# Altium schematic symbol library Schlib.SchLib: 183 symbols
Pins are listed as number, name and electrical type; pins without a type are passive.

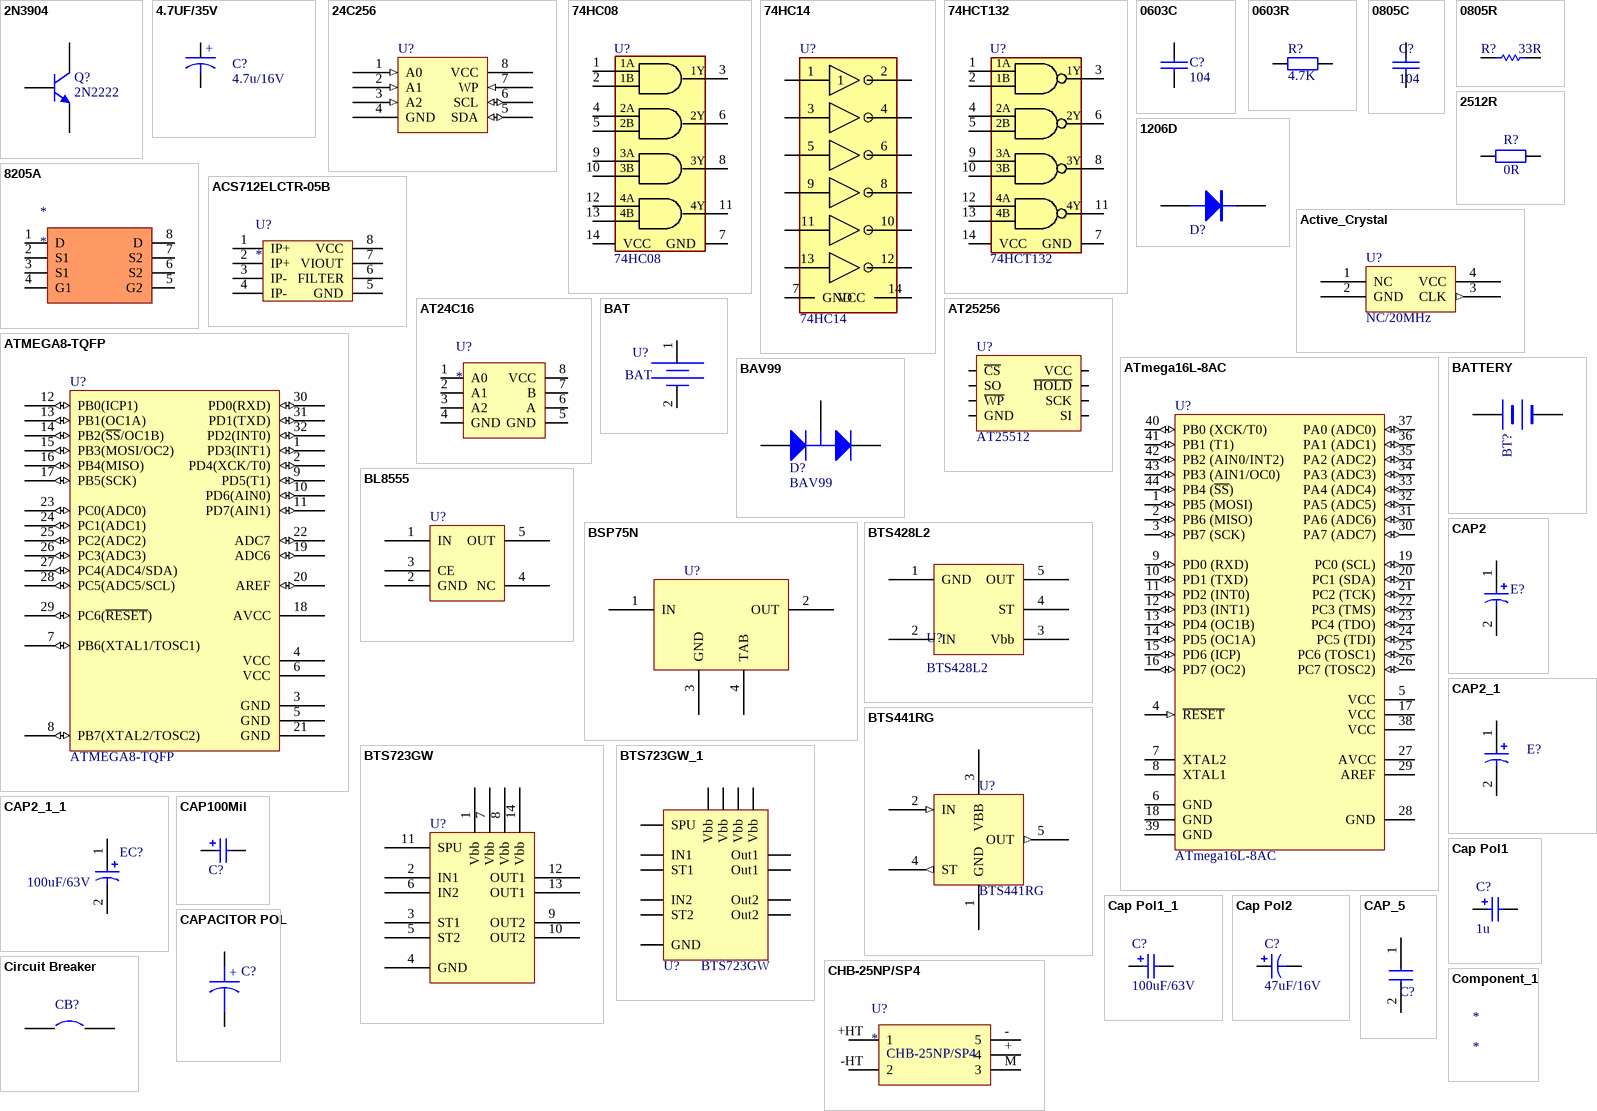
[diagram p0: symbols 2N3904 to Component_1]

## 2N3904
designator Q?, comment 2N2222
NPN General Purpose Amplifier; Published: 8-Jun-2000; LatestRevisionDate: 15-Jan-2003; LatestRevisionNote: PCB Footprint 'BCY-W3/D4.7' replaced; DatasheetDocument: 1997; PackageDocument: Sep-1998; PackageReference: TO-92A; Publisher: Altium Limited; Code_JEDEC: TO-92A; ComponentLink1Description: Manufacturer Link; ComponentLink1URL: http://www.fairchildsemi.com/; ComponentLink2Description: Datasheet; ComponentLink2URL: http://www.fairchildsemi.com/ds/2N%2F2N3904.pdf
footprint TO-92A (TO, Flat Index; 3 In-Line, Axial Leads; Body Dia. 4.5mm; Leads 0.51 x 0.48 mm (max))
simulation model 2N3904 (NPN)
signal-integrity model 2N3904
pins: 1 E, 2 B, 3 C

## 4.7UF/35V
designator C?, comment 4.7u/16V
CCTC-475K025
footprint 6032C
footprint 3528
pins: 1, 2
text: +

## 24C256
designator U?
footprint NSO8
pins: 1 A0 (in), 2 A1 (in), 3 A2 (in), 4 GND (power), 5 SDA (io), 6 SCL (io), 7 WP (in), 8 VCC (power)

## 74HC08
designator U?
Quad 2-input NAND gate
footprint SOP14
pins: 1 1A, 2 1B, 3 1Y, 4, 5, 6, 7 GND, 8, 9, 10 1B, 11, 12, 13, 14 VCC
text: 2A; 2Y; 2B; 3A; 3Y; 3B; 4A; 4Y; 4B

## 74HC14
designator U?
Quad 2-input NAND gate
footprint SOP14
pins: 1, 2, 3, 4, 5, 6, 7 GND, 8, 9, 10, 11, 12, 13, 14 VCC

## 74HCT132
designator U?
Quad 2-input NAND gate
footprint SOP14
pins: 1 1A, 2 1B, 3 1Y, 4, 5, 6, 7 GND, 8, 9, 10 1B, 11, 12, 13, 14 VCC
text: 2A; 2Y; 2B; 3A; 3Y; 3B; 4A; 4Y; 4B

## 0603C
designator C?, comment 104
footprint 0603C
pins: 1, 2

## 0603R
designator R?, comment 4.7K
footprint 0603R
pins: 1, 2

## 0805C
designator C?, comment 104
footprint 0805C
pins: 1, 2

## 0805R
designator R?, comment 33R
Published: 8-Jun-2000; LatestRevisionDate: 17-Jul-2002; LatestRevisionNote: Re-released for DXP Platform.; PackageReference: AXIAL-0.5; Publisher: Altium Limited; PackageDescription: Axial Device, Thru-Hole; 2 Leads; 0.5 in Pin Spacing
footprint 0805R
pins: 1, 2

## 1206D
designator D?
Diode
footprint 1206D (1206-Diode)
pins: 1 A, 2 K

## 2512R
designator R?, comment 0R
footprint 2512R (Footprint not found)
pins: 1, 2

## 8205A
designator *
pins: 1 D, 2 S1, 3 S1, 4 G1, 5 G2, 6 S2, 7 S2, 8 D

## ACS712ELCTR-05B
designator U?
pins: 1 IP+, 2 IP+, 3 IP-, 4 IP-, 5 GND, 6 FILTER, 7 VIOUT, 8 VCC

## Active_Crystal
designator U?, comment NC/20MHz
Active Crystal
footprint SO-CRYSTAL-4
pins: 1 NC, 2 GND (power), 3 CLK (out), 4 VCC (power)
2 alternate drawings of the same symbol

## AT24C16
designator U?
pins: 1 A0, 2 A1, 3 A2, 4 GND, 5 GND, 6 A, 7 B, 8 VCC

## AT25256
designator U?, comment AT25512
footprint SOIC8
pins: 1 ~{CS}, 2 SO, 3 ~{WP}, 4 GND, 5 SI, 6 SCK, 7 ~{HOLD}, 8 VCC

## ATMEGA8-TQFP
designator U?
Atmel 8-bit AVR MCU
footprint QFP7X7-G32/Y1.45N
pins: 1 PD3(INT1) (io), 2 PD4(XCK/T0) (io), 3 GND (power), 4 VCC (power), 5 GND (power), 6 VCC (power), 7 PB6(XTAL1/TOSC1) (io), 8 PB7(XTAL2/TOSC2) (io), 9 PD5(T1) (io), 10 PD6(AIN0) (io), 11 PD7(AIN1) (io), 12 PB0(ICP1) (io), 13 PB1(OC1A) (io), 14 PB2(~{SS}/OC1B) (io), 15 PB3(MOSI/OC2) (io), 16 PB4(MISO) (io), 17 PB5(SCK) (io), 18 AVCC (power), 19 ADC6 (io), 20 AREF (io), 21 GND (power), 22 ADC7 (io), 23 PC0(ADC0) (io), 24 PC1(ADC1) (io), 25 PC2(ADC2) (io), 26 PC3(ADC3) (io), 27 PC4(ADC4/SDA) (io), 28 PC5(ADC5/SCL) (io), 29 PC6(~{RESET}) (io), 30 PD0(RXD) (io), 31 PD1(TXD) (io), 32 PD2(INT0) (io)

## ATmega16L-8AC
designator U?
8-Bit AVR Microcontroller with 16K Bytes of In-System Programmable Flash Memory; Published: 17-Sep-2003; LatestRevisionDate: 4-Mar-2005; LatestRevisionNote: Stylized 3D Model Added.; DatasheetDocument: 2466E-AVR-10/02; PackageDocument: Dec-1999; PackageReference: 40P6; Publisher: Altium Limited; ComponentLink1Description: Manufacturer Link; ComponentLink1URL: http://www.atmel.com; ComponentLink2Description: Datasheet; ComponentLink2URL: http://www.atmel.com/dyn/resources/prod_documents/doc2466.pdf
footprint TQFP44
pins: 1 PB5 (MOSI) (io), 2 PB6 (MISO) (io), 3 PB7 (SCK) (io), 4 ~{RESET} (in), 5 VCC (power), 6 GND, 7 XTAL2, 8 XTAL1, 9 PD0 (RXD) (io), 10 PD1 (TXD) (io), 11 PD2 (INT0) (io), 12 PD3 (INT1) (io), 13 PD4 (OC1B) (io), 14 PD5 (OC1A) (io), 15 PD6 (ICP) (io), 16 PD7 (OC2) (io), 17 VCC (power), 18 GND, 19 PC0 (SCL) (io), 20 PC1 (SDA) (io), 21 PC2 (TCK) (io), 22 PC3 (TMS) (io), 23 PC4 (TDO) (io), 24 PC5 (TDI) (io), 25 PC6 (TOSC1) (io), 26 PC7 (TOSC2) (io), 27 AVCC (power), 28 GND (power), 29 AREF, 30 PA7 (ADC7) (io), 31 PA6 (ADC6) (io), 32 PA5 (ADC5) (io), 33 PA4 (ADC4) (io), 34 PA3 (ADC3) (io), 35 PA2 (ADC2) (io), 36 PA1 (ADC1) (io), 37 PA0 (ADC0) (io), 38 VCC (power), 39 GND, 40 PB0 (XCK/T0) (io), 41 PB1 (T1) (io), 42 PB2 (AIN0/INT2) (io), 43 PB3 (AIN1/OC0) (io), 44 PB4 (~{SS}) (io)

## BAT
designator U?
footprint BAT-1
pins: 1 NC, 2 NC

## BATTERY
designator BT?
Battery
footprint CR1220SOP
pins: 1 +, 2 -

## BAV99
designator D?
Silicon Switching Diode Array for High-Speed Switching; Published: 21-Mar-2003; DatasheetDocument: Oct-1999; PackageDocument: Sep-2001; PackageReference: SOT-23; Publisher: Altium Limited; ComponentLink1Description: Manufacturer Link; ComponentLink1URL: http://www.infineon.com/; ComponentLink2Description: Datasheet; ComponentLink2URL: http://www.infineon.com/upload/Document/cmc_upload/documents/080/631/bav99series_1.pdf
footprint SOT-23
footprint SOT23
pins: 1 A, 2 K, 3 C
2 alternate drawings of the same symbol

## BL8555
designator U?
footprint LDO
pins: 1 IN, 2 GND, 3 CE, 4 NC, 5 OUT

## BSP75N
designator U?
footprint SOT-223-4
pins: 1 IN, 2 OUT, 3 GND, 4 TAB

## BTS428L2
designator U?
footprint TO-252-5-11
pins: 1 GND, 2 IN, 3 Vbb, 4 ST, 5 OUT

## BTS441RG
designator U?
Smart Power High-Side-Switch
footprint PG-TO263-5-2
pins: 1 GND (power), 2 IN (in), 3 VBB (power), 4 ST (out), 5 OUT (out)
2 alternate drawings of the same symbol

## BTS723GW
designator U?
footprint SO14
pins: 1 Vbb, 2 IN1, 3 ST1, 4 GND, 5 ST2, 6 IN2, 7 Vbb, 8 Vbb, 9 OUT2, 10 OUT2, 11 SPU, 12 OUT1, 13 OUT1, 14 Vbb

## BTS723GW_1
designator U?, comment BTS723GW
Smart High-Side Power Switch
footprint SO-14
pins: 1 Vbb, 2 IN1, 3 ST1, 4 GND, 5 ST2, 6 IN2, 7 Vbb, 8 Vbb, 9 Out2, 10 Out2, 11 SPU, 12 Out1, 13 Out1, 14 Vbb
2 alternate drawings of the same symbol

## CAP2
designator E?
极性电容
footprint 0805
footprint 7343
pins: 1, 2

## CAP2_1
designator E?
极性电容
footprint 0805
footprint SMD16V1000U-1
pins: 1, 2

## CAP2_1_1
designator EC?, comment 100uF/63V
极性电容
footprint 0805
footprint SMD 6.3*8
pins: 1, 2

## CAP100Mil
designator C?, comment CAP  (value not drawn)
footprint CAP100Mil (MyCap)
pins: 1, 2

## Cap Pol1
designator C?, comment 1u
Polarized Capacitor (Radial); Published: 8-Jun-2000; LatestRevisionDate: 17-Jul-2002; LatestRevisionNote: Re-released for DXP Platform.; Publisher: Altium Limited
footprint RB7.6-15 (Polarized Capacitor (Radial); 2 Leads)
footprint CAPPR1.27-1.7x2.8 (Capacitor, Radial, Tantalum; Body 1.7 x 2.8 mm (Dia.xH max); Pin Spacing 1.27 mm (typ))
footprint CAPPR1.5-4x5 (Capacitor, Electrolytic, Radial; Body 4 x 5 mm (Dia.xH typ); Pin Spacing 1.5 mm (typ))
footprint CAPPR2-5x6.8 (Capacitor, Electrolytic, Radial; Body 5 x 6.8 mm (Dia.xH typ); Pin Spacing 2 mm (typ))
footprint CAPPR5-5x5 (Capacitor, Electrolytic, Radial; Body 5 x 5 mm (Dia.xH typ); Pin Spacing 5 mm (typ))
footprint CAPPR7.5-16x35 (Capacitor, Electrolytic, Radial; Body 16 x 35 mm (Dia.xH typ); Pin Spacing 7.5 mm (typ))
simulation model CAP (Capacitor)
signal-integrity model Cap Pol
pins: 1, 2
1 alternate drawing of the same symbol

## Cap Pol1_1
designator C?, comment 100uF/63V
Polarized Capacitor (Radial); Value: 100pF; Published: 8-Jun-2000; LatestRevisionDate: 17-Jul-2002; LatestRevisionNote: Re-released for DXP Platform.; PackageReference: RB7.6-15; Publisher: Altium Limited
footprint RB7.6-15
footprint HA-C1
footprint A
footprint B
footprint RB.2/.4-SMD
pins: 1, 2
2 alternate drawings of the same symbol

## Cap Pol2
designator C?, comment 47uF/16V
Polarized Capacitor (Axial); Value: 100pF; Published: 8-Jun-2000; LatestRevisionDate: 17-Jul-2002; LatestRevisionNote: Re-released for DXP Platform.; PackageReference: POLAR0.8; Publisher: Altium Limited
footprint POLAR0.8
footprint CAPPA14.05-10.5x6.3
footprint CAPPA23.6-18.5x8.5
footprint CAPPA31.6-26.5x12.5
footprint 6032
pins: 1, 2
2 alternate drawings of the same symbol

## CAP_5
designator C?
电容
footprint CAP
footprint 1210
pins: 1, 2

## CAPACITOR POL
designator C?
Capacitor
footprint C1206
footprint 7343
pins: 1, 2
2 alternate drawings of the same symbol
text: +

## CHB-25NP/SP4
designator U?
pins: + 4, +HT 1, - 5, -HT 2, M 3

## Circuit Breaker
designator CB?  (value not drawn)
footprint PIN_2
pins: 1, 2

## Component_1
designator *

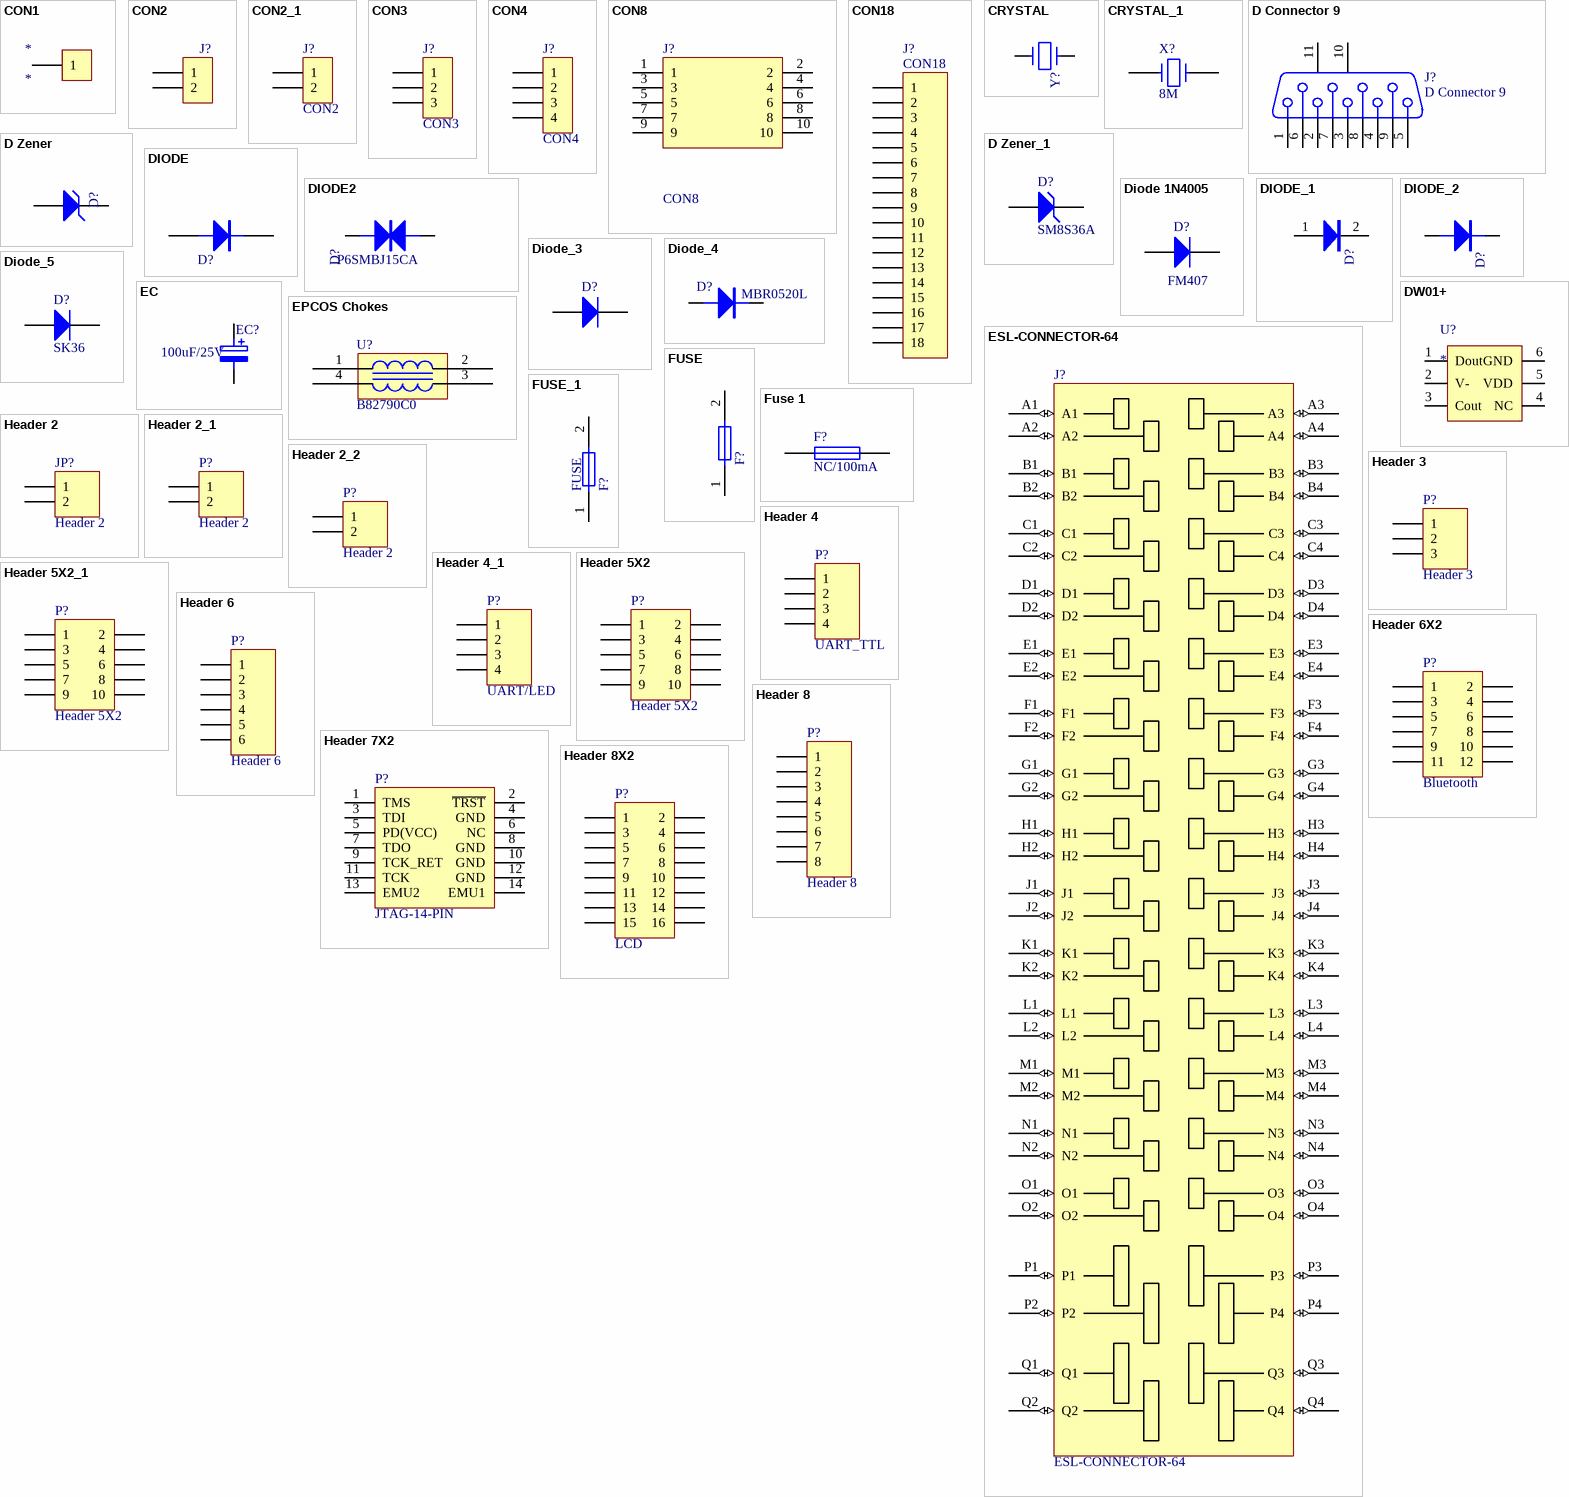
[diagram p1: symbols CON1 to Header 8X2]

## CON1
designator *
pins: 1

## CON2
designator J?
Connector
footprint SIP2
pins: 1, 2

## CON2_1
designator J?, comment CON2
Connector
footprint CON2-3.96
footprint DIP3.96-2-1
pins: 1, 2

## CON3
designator J?
Connector
footprint SIP3
footprint DIP2.54-3-1
pins: 1, 2, 3

## CON4
designator J?
Connector
footprint DIP2.54-4-1
pins: 1, 2, 3, 4

## CON8
designator J?
Connector
footprint DIP2.54-8-2
pins: 1, 2, 3, 4, 5, 6, 7, 8, 9, 10

## CON18
designator J?
footprint IDC18-XS
pins: 1, 2, 3, 4, 5, 6, 7, 8, 9, 10, 11, 12, 13, 14, 15, 16, 17, 18

## CRYSTAL
designator Y?
Crystal
footprint CRYSTAL1
footprint CRYSTAL2
footprint CRYSTAL-2
pins: 1, 2

## CRYSTAL_1
designator X?, comment 8M
Crystal
footprint XTAL-2-S
pins: 1, 2
2 alternate drawings of the same symbol

## D Connector 9
designator J?
Receptacle Assembly, 9 Position, Right Angle; PackageDocument: O; Positions: 9; Published: 15-Jun-2001; LatestRevisionDate: 17-Jul-2002; LatestRevisionNote: Re-released for DXP Platform.; DatasheetDocument: 1-Sep-1999; PackageReference: 788750; Publisher: Altium Limited; Orientation: Right Angle; Gender: Receptacle
footprint DSUB1.385-2H9 (Connector; D Subminiature; 9 Position; Right Angle; Pitch 1.385 mm)
signal-integrity model Connector
pins: 1, 2, 3, 4, 5, 6, 7, 8, 9, 10 MH1, 11 MH2

## D Zener
designator D?
Zener Diode; Published: *; LatestRevisionDate: *; LatestRevisionNote: *; PackageReference: *; Publisher: *
footprint DIODE-0.7
footprint DO-214AB
pins: 1 A, 2 K
2 alternate drawings of the same symbol

## D Zener_1
designator D?, comment SM8S36A
Zener Diode; Published: 8-Jun-2000; LatestRevisionDate: 17-Jul-2002; LatestRevisionNote: Re-released for DXP Platform.; PackageReference: DIODE-0.7; Publisher: Altium Limited
footprint DIODE-0.7
footprint D1812
footprint DO-218AB
pins: 1 A, 2 K
2 alternate drawings of the same symbol

## DIODE
designator D?
Diode
footprint 2010D
pins: 1 A, 2 K

## DIODE2
designator D?, comment P6SMBJ15CA
Diode
footprint 1206D
footprint 1210D
footprint DIODE0.4
footprint DO-214AA
pins: 1, 2

## Diode 1N4005
designator D?, comment FM407
1 Amp General Purpose Rectifier; Published: 8-Jun-2000; LatestRevisionDate: 17-Jul-2002; LatestRevisionNote: Re-released for DXP Platform.; DatasheetVersion: 1998; PackageVersion: Aug-1999; PackageReference: DO-41; Publisher: Altium Limited; PackageDescription: Diode, Axial; Body 5.2 x 2.7 mm (LxDia. max), Lead Dia. 0.86 mm (max); Code_JEDEC: DO-204-AL; ComponentLink1Description: Manufacturer Link; ComponentLink1URL: http://www.fairchildsemi.com/; ComponentLink2Description: Datasheet; ComponentLink2URL: http://www.fairchildsemi.com/ds/1N%2F1N4001.pdf
footprint Model Name (Footprint not found)
footprint DO-214AC SMA
pins: 1 A, 2 K

## DIODE_1
designator D?
footprint 2010D
pins: 1 A, 2 K

## DIODE_2
designator D?
Diode
footprint DO-214AA
footprint 1210D
footprint 1812D
pins: 1 A, 2 K

## Diode_3
designator D?
Default Diode; Published: 8-Jun-2000; LatestRevisionDate: 17-Jul-2002; LatestRevisionNote: Re-released for DXP Platform.; PackageVersion: Sep-1996; PackageReference: SMC; Publisher: Altium Limited; PackageDescription: DO-214-AB/SMC; 2 C-Bend Leads; Body 7.9 x 5.9 mm, inc. leads (LxW); Code_JEDEC: DO-214-AB
footprint SMC (DO-214-AB/SMC; 2 C-Bend Leads; Body 7.9 x 5.9 mm, inc. leads (LxW))
simulation model DIODE (Diode)
signal-integrity model Diode
pins: 1 A, 2 K

## Diode_4
designator D?, comment MBR0520L
Diode
footprint 1206-Diode
pins: 1 A, 2 K

## Diode_5
designator D?, comment SK36
Default Diode; Published: 8-Jun-2000; LatestRevisionDate: 17-Jul-2002; LatestRevisionNote: Re-released for DXP Platform.; PackageDocument: Sep-1996; PackageReference: SMC; Publisher: Altium Limited; Code_JEDEC: DO-214-AB
footprint SMC
footprint D1812
pins: 1 A, 2 K
2 alternate drawings of the same symbol

## DW01+
designator U?
footprint SOT-23-6 (Footprint not found)
pins: 1 Dout, 2 V-, 3 Cout, 4 NC, 5 VDD, 6 GND

## EC
designator EC?, comment 100uF/25V
Electrolytic Capacitor; 钽电容: *
footprint 7445 (D型钽电容)
pins: 1, 2
2 alternate drawings of the same symbol

## EPCOS Chokes
designator U?, comment B82790C0
Common-mode chokes, ring core
footprint EPCOS_Chokes
pins: 1, 2, 3, 4
2 alternate drawings of the same symbol

## ESL-CONNECTOR-64
designator J?
ESL 64pin connector
footprint ESL-CONNECTOR-64
pins: A1 (io), A2 (io), A3 (io), A4 (io), B1 (io), B2 (io), B3 (io), B4 (io), C1 (io), C2 (io), C3 (io), C4 (io), D1 (io), D2 (io), D3 (io), D4 (io), E1 (io), E2 (io), E3 (io), E4 (io), F1 (io), F2 (io), F3 (io), F4 (io), G1 (io), G2 (io), G3 (io), G4 (io), H1 (io), H2 (io), H3 (io), H4 (io), J1 (io), J2 (io), J3 (io), J4 (io), K1 (io), K2 (io), K3 (io), K4 (io), L1 (io), L2 (io), L3 (io), L4 (io), M1 (io), M2 (io), M3 (io), M4 (io), N1 (io), N2 (io), N3 (io), N4 (io), O1 (io), O2 (io), O3 (io), O4 (io), P1 (io), P2 (io), P3 (io), P4 (io), Q1 (io), Q2 (io), Q3 (io), Q4 (io)
2 alternate drawings of the same symbol

## FUSE
designator F?
footprint FUSE2
pins: 1, 2

## Fuse 1
designator F?, comment NC/100mA
Fuse; Published: 8-Jun-2000; LatestRevisionDate: 17-Jul-2002; LatestRevisionNote: Re-released for DXP Platform.; PackageReference: PIN-W2/E2.8; Publisher: Altium Limited
footprint 0805R
pins: 1, 2
2 alternate drawings of the same symbol

## FUSE_1
designator F?, comment FUSE
footprint 1210FUSE
pins: 1, 2

## Header 2
designator JP?
Header, 2-Pin; LatestRevisionDate: 17-Jul-2002; LatestRevisionNote: Re-released for DXP Platform.; Publisher: Altium Limited
footprint Header2  5.08mm
signal-integrity model Connector
pins: 1, 2

## Header 2_1
designator P?, comment Header 2
Header, 2-Pin; LatestRevisionDate: 17-Jul-2002; LatestRevisionNote: Re-released for DXP Platform.; Publisher: Altium Limited
footprint HDR1X2 (Connector; Header; 2 Position)
signal-integrity model Connector
pins: 1, 2

## Header 2_2
designator P?, comment Header 2
Header, 2-Pin; LatestRevisionDate: 17-Jul-2002; LatestRevisionNote: Re-released for DXP Platform.; Publisher: Altium Limited
footprint HDR1X2 (Connector; Header; 2 Position)
signal-integrity model Connector
pins: 1, 2

## Header 3
designator P?
Header, 3-Pin; LatestRevisionDate: 17-Jul-2002; LatestRevisionNote: Re-released for DXP Platform.; Publisher: Altium Limited
footprint resistor 67W
signal-integrity model Connector
pins: 1, 2, 3

## Header 4
designator P?, comment UART_TTL
Header, 4-Pin; LatestRevisionDate: 17-Jul-2002; LatestRevisionNote: Re-released for DXP Platform.; Publisher: Altium Limited
footprint HDR1X4 (Connector; Header; 4 Position)
signal-integrity model Connector
pins: 1, 2, 3, 4

## Header 4_1
designator P?, comment UART/LED
Header, 4-Pin; LatestRevisionDate: 17-Jul-2002; LatestRevisionNote: Re-released for DXP Platform.; Publisher: Altium Limited
footprint HDR1X4 (Connector; Header; 4 Position)
signal-integrity model Connector
pins: 1, 2, 3, 4

## Header 5X2
designator P?
Header, 5-Pin, Dual row; LatestRevisionDate: 17-Jul-2002; LatestRevisionNote: Re-released for DXP Platform.; Publisher: Altium Limited
footprint HDR2X5 (Connector; Header; 5x2 Position)
signal-integrity model Connector
pins: 1, 2, 3, 4, 5, 6, 7, 8, 9, 10

## Header 5X2_1
designator P?, comment Header 5X2
Header, 5-Pin, Dual row; LatestRevisionDate: 17-Jul-2002; LatestRevisionNote: Re-released for DXP Platform.; Publisher: Altium Limited
footprint HDR2X5 (Connector; Header; 5x2 Position)
signal-integrity model Connector
pins: 1, 2, 3, 4, 5, 6, 7, 8, 9, 10

## Header 6
designator P?
Header, 6-Pin; LatestRevisionDate: 17-Jul-2002; LatestRevisionNote: Re-released for DXP Platform.; Publisher: Altium Limited
footprint HDR1X6 (Connector; Header; 6 Position)
signal-integrity model Connector
pins: 1, 2, 3, 4, 5, 6

## Header 6X2
designator P?, comment Bluetooth
Header, 6-Pin, Dual row; LatestRevisionDate: 17-Jul-2002; LatestRevisionNote: Re-released for DXP Platform.; Publisher: Altium Limited
footprint HDR2X6 (Connector; Header; 6x2 Position)
signal-integrity model Connector
pins: 1, 2, 3, 4, 5, 6, 7, 8, 9, 10, 11, 12

## Header 7X2
designator P?, comment JTAG-14-PIN
Header, 7-Pin, Dual row; LatestRevisionDate: 17-Jul-2002; LatestRevisionNote: Re-released for DXP Platform.; Publisher: Altium Limited
footprint HDR2X7 (Connector; Header; 7x2 Position)
pins: 1 TMS, 2 ~{TRST}, 3 TDI, 4 GND, 5 PD(VCC), 6 NC, 7 TDO, 8 GND, 9 TCK_RET, 10 GND, 11 TCK, 12 GND, 13 EMU2, 14 EMU1

## Header 8
designator P?
Header, 8-Pin; LatestRevisionDate: 17-Jul-2002; LatestRevisionNote: Re-released for DXP Platform.; Publisher: Altium Limited
footprint HDR1X8 (Connector; Header; 8 Position)
signal-integrity model Connector
pins: 1, 2, 3, 4, 5, 6, 7, 8

## Header 8X2
designator P?, comment LCD
Header, 8-Pin, Dual row; LatestRevisionDate: 17-Jul-2002; LatestRevisionNote: Re-released for DXP Platform.; Publisher: Altium Limited
footprint HDR2X8 (Connector; Header; 8x2 Position)
signal-integrity model Connector
pins: 1, 2, 3, 4, 5, 6, 7, 8, 9, 10, 11, 12, 13, 14, 15, 16

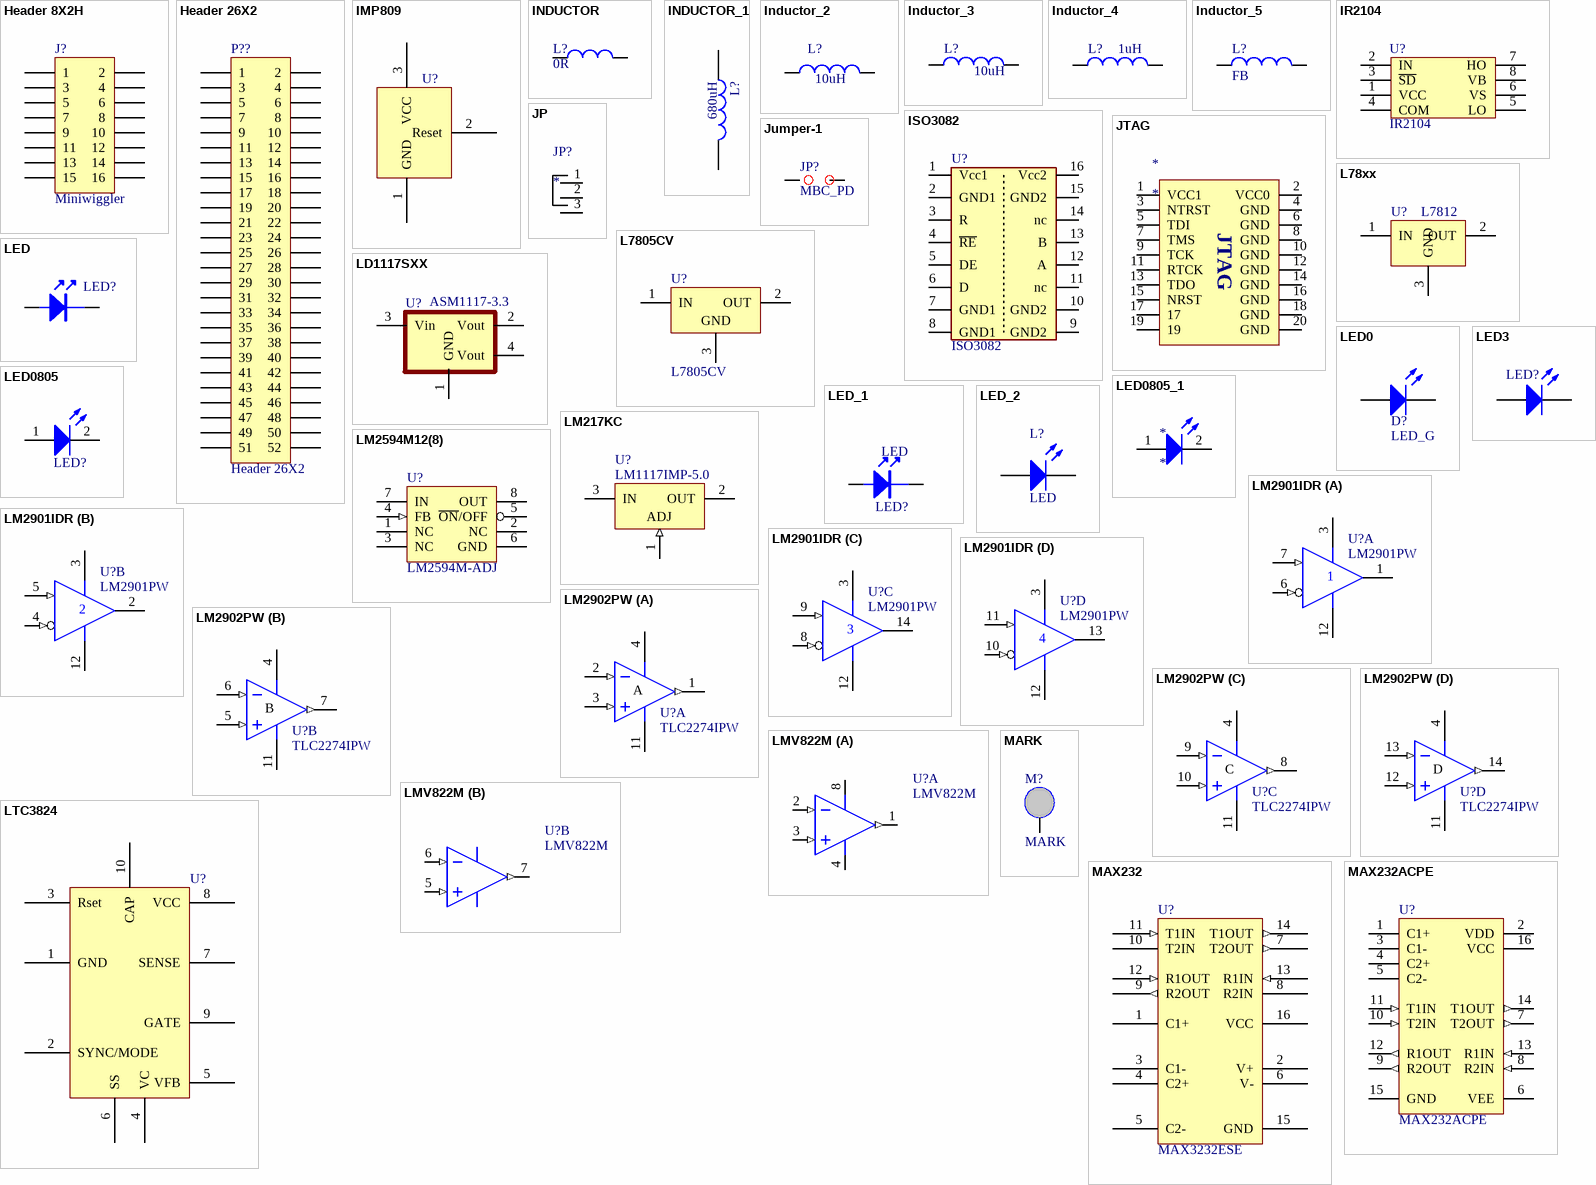
[diagram p2: symbols Header 8X2H to MAX232ACPE]

## Header 8X2H
designator J?, comment Miniwiggler
Header, 8-Pin, Dual row, Right Angle; LatestRevisionDate: 17-Jul-2002; LatestRevisionNote: Re-released for DXP Platform.; Publisher: Altium Limited
footprint FKV16SN
pins: 1, 2, 3, 4, 5, 6, 7, 8, 9, 10, 11, 12, 13, 14, 15, 16
2 alternate drawings of the same symbol

## Header 26X2
designator P??
footprint LPC2148Core
pins: 1, 2, 3, 4, 5, 6, 7, 8, 9, 10, 11, 12, 13, 14, 15, 16, 17, 18, 19, 20, 21, 22, 23, 24, 25, 26, 27, 28, 29, 30, 31, 32, 33, 34, 35, 36, 37, 38, 39, 40, 41, 42, 43, 44, 45, 46, 47, 48, 49, 50, 51, 52

## IMP809
designator U?
footprint SOT-23
pins: 1 GND, 2 Reset, 3 VCC

## INDUCTOR
designator L?, comment 0R
footprint 0805L
footprint 0603L
footprint 1206L
pins: 1, 2

## INDUCTOR_1
designator L?, comment 680uH
footprint SMD2010
pins: 1, 2

## Inductor_2
designator L?  value 10uH
Inductor; Code_IEC: 1005; Published: 8-Jun-2000; LatestRevisionDate: 29-May-2009; LatestRevisionNote: IPC-7351 Footprint Added.; PackageReference: 0402-A; Publisher: Altium Limited; PackageDescription: Chip Inductor; Code_JEITA: 0402
footprint 0805L
pins: 1, 2

## Inductor_3
designator L?, comment 10uH
Inductor; Code_IEC: 1005; Published: 8-Jun-2000; LatestRevisionDate: 17-Jul-2002; LatestRevisionNote: Re-released for DXP Platform.; PackageReference: 0402-A; Publisher: Altium Limited; Code_JEITA: 0402
footprint AXIAL-0.4 (Resistor; 2 Leads)
footprint INDC1608-0603 (Chip Inductor; Body 1.6 x 0.8 mm (LxW typ))
footprint INDC2010-0804 (2012 Chip; Chip Inductor; Body 2.0 x 1.2 mm (LxW typ))
footprint INDC2012-0805 (Chip Inductor; Body 2 x 1.2 mm (LxW typ))
footprint INDC3216-1206 (3216 Chip; Chip Inductor; Body 3.2 x 1.6 mm (LxW typ))
footprint INDC4510-1804 (4564 Chip; Chip Inductor; Body 4.5 x 6.4 mm (LxW typ))
simulation model INDUCTOR (Inductor)
signal-integrity model Inductor
pins: 1, 2

## Inductor_4
designator L?, comment value 1uH  (hidden comment: Inductor)
Code_IEC: 1005; Published: 8-Jun-2000; LatestRevisionDate: 17-Jul-2002; LatestRevisionNote: Re-released for DXP Platform.; PackageReference: 0402-A; Publisher: Altium Limited; Code_JEITA: 0402
footprint 0603R
pins: 1, 2

## Inductor_5
designator L?, comment FB
Inductor; Code_IEC: 1005; Value: 10mH; Published: 8-Jun-2000; LatestRevisionDate: 17-Jul-2002; LatestRevisionNote: Re-released for DXP Platform.; PackageReference: 0402-A; Publisher: Altium Limited; Code_JEITA: 0402
footprint 0402-A
footprint L0603
footprint 2012_Chip
footprint 2029
footprint 0805R
pins: 1, 2
2 alternate drawings of the same symbol

## IR2104
designator U?
footprint DIP8
pins: 1 VCC, 2 IN, 3 ~{SD}, 4 COM, 5 LO, 6 VS, 7 HO, 8 VB

## ISO3082
designator U?
Half-Duplex,200Kbps
footprint SO-G16
pins: 1 Vcc1 (power), 2 GND1, 3 R, 4 ~{RE}, 5 DE, 6 D, 7 GND1, 8 GND1, 9 GND2, 10 GND2, 11 nc, 12 A, 13 B, 14 nc, 15 GND2, 16 Vcc2

## JP
designator JP?
footprint Header1*3
pins: 1, 2, 3

## JTAG
designator *
pins: 1 VCC1, 2 VCC0, 3 NTRST, 4 GND, 5 TDI, 6 GND, 7 TMS, 8 GND, 9 TCK, 10 GND, 11 RTCK, 12 GND, 13 TDO, 14 GND, 15 NRST, 16 GND, 17, 18 GND, 19, 20 GND

## Jumper-1
designator JP?, comment MBC_PD
Jumper; Remark: *
footprint SIP2
footprint 2012
footprint 3216
footprint J5
pins: 1, 2
2 alternate drawings of the same symbol

## L78xx
designator U?, comment L7812
footprint TO-220AB-Small-Heatsink (TO, Thru-Hole, Vertical, Heatsink Mounted; 3 In-Line Leads; Pitch 2.54 mm)
pins: 1 IN, 2 OUT, 3 GND

## L7805CV
designator U?
Positive Voltage Regulator; Note: Tab is connected to pin 3 (GND).; Published: 24-Aug-2001; LatestRevisionDate: 17-Jul-2002; LatestRevisionNote: Re-released for DXP Platform.; DatasheetDocument: Dec-1998; PackageDocument: Jun-1998; PackageReference: TO220ABN; Publisher: Altium Limited; ComponentLink1Description: Manufacturer Link; ComponentLink1URL: http://www.st.com/
footprint TO220ABN (TO, Thru-Hole, Vertical, Heatsink Mounted; 3 In-Line Leads; Pitch 2.54 mm; Pin sequence 1, 3, 2)
pins: 1 IN (power), 2 OUT (power), 3 GND (power)

## LD1117SXX
designator U?, comment ASM1117-3.3
0≤Iout≤1A
footprint SOT-223
pins: 1 GND, 2 Vout, 3 Vin, 4 Vout
2 alternate drawings of the same symbol

## LED
designator LED?
footprint LED3MM_A
footprint LED3MM_B
footprint 0805LED
pins: 1 A, 2 K

## LED0
designator D?, comment LED_G
Typical INFRARED GaAs LED; Published: 8-Jun-2000; LatestRevisionDate: 08-Jul-2005; LatestRevisionNote: Mech Layer 1 removed.; PackageReference: LED-0; Publisher: Altium Limited
footprint LED-0
footprint D0805
pins: 1 A, 2 K
2 alternate drawings of the same symbol

## LED3
designator LED?, comment LED  (value not drawn)
BLUE LED; Published: 8-Jun-2000; LatestRevisionDate: 17-Dec-2003; LatestRevisionNote: PCB Footprint replaced.; DatasheetDocument: 16-Apr-2002; PackageDocument: 16-Apr-2002; PackageReference: 3.5X2.8X1.9; Publisher: Altium Limited
footprint LED-0603
pins: 1 A, 2 K
2 alternate drawings of the same symbol

## LED0805
designator LED?, comment LED  (value not drawn)
footprint LED-0805
pins: 1 A, 2 K

## LED0805_1
designator *
footprint LED-0805
pins: 1 A, 2 K

## LED_1
designator LED?, comment LED
footprint LED3MM_A
footprint LED3MM_B
footprint LED2
pins: 1 A, 2 K

## LED_2
designator L?, comment LED
footprint LED
pins: 1 A, 2 K

## LM217KC
designator U?, comment LM1117IMP-5.0
3-Terminal Adjustable Regulator; Note: Pin 2 is electrically connected to tab; Published: 15-Apr-2002; DatasheetVersion: Feb-1988; PackageVersion: Sep-1995; PackageReference: KC03; Publisher: Altium Limited; PackageDescription: TO, Thru-Hole, Vertical, Heatsink Mounted; 3 In-Line Leads; Pitch 2.54 mm; ComponentLink1Description: Manufacturer Link; ComponentLink1URL: http://www.ti.com/
footprint KC03
footprint DSO-G3
pins: 1 ADJ (in), 2 OUT (power), 3 IN (power)
2 alternate drawings of the same symbol

## LM2594M12(8)
designator U?, comment LM2594M-ADJ
SIMPLE SWIDTCHER Power Converter 150kHz 0.5A Step-Down Voltage Regulator
footprint DIP-8
footprint SO-G8/C5
footprint SO-8
pins: 1 NC, 2 NC, 3 NC, 4 FB (in), 5 ~{ON}/OFF, 6 GND (power), 7 IN (power), 8 OUT (power)
2 alternate drawings of the same symbol

## LM2901IDR
designator U?, comment LM2901PW
Quadruple Differential Comparator; Published: 15-Apr-2002; LatestRevisionDate: 13-Apr-2006; LatestRevisionNote: IPC-7351 Footprint Added.; DatasheetVersion: Apr-1988; PackageVersion: Jan-1998; PackageReference: D014; Publisher: Altium Limited; PackageDescription: 14-Pin Small Outline Integrated Circuit 1.27 mm Pitch; Code_IPC: SOIC127P600-14; ComponentLink1Description: Manufacturer Link; ComponentLink1URL: http://www.ti.com/; ComponentLink2Description: Datasheet; ComponentLink2URL: http://www-s.ti.com/sc/ds/lm139a.pdf
footprint D014_N
footprint D014_L
footprint D014_M
footprint PW014_N
part A pins: 1 OUT (oc), 3 VCC (power), 6 IN- (in), 7 IN+ (in), 12 GND (power)
part B pins: 2 OUT (oc), 3 VCC (power), 4 IN- (in), 5 IN+ (in), 12 GND (power)
part C pins: 3 VCC (power), 8 IN- (in), 9 IN+ (in), 12 GND (power), 14 OUT (oc)
part D pins: 3 VCC (power), 10 IN- (in), 11 IN+ (in), 12 GND (power), 13 OUT (oc)
2 alternate drawings of the same symbol

## LM2902PW
designator U?, comment TLC2274IPW
Quadruple Operational Amplifier; Published: 16-Jan-2001; LatestRevisionDate: 16-Oct-2006; LatestRevisionNote: IPC-7351 Footprint Added.; DatasheetVersion: Feb-1997; PackageVersion: Feb-1999; PackageReference: PW014; Publisher: Altium Limited; PackageDescription: 14-Pin Thin Small Outline Package 0.65 mm Pitch; ComponentLink1Description: Manufacturer Link; ComponentLink1URL: http://www.ti.com/; ComponentLink2Description: Datasheet; ComponentLink2URL: http://www-s.ti.com/sc/ds/lm2902.pdf
footprint PW014_N
footprint PW014_L
footprint PW014_M
part A pins: 1 OUT (out), 2 IN- (in), 3 IN+ (in), 4 V+ (power), 11 V- (power)
part B pins: 4 V+ (power), 5 IN+ (in), 6 IN- (in), 7 OUT (out), 11 V- (power)
part C pins: 4 V+ (power), 8 OUT (out), 9 IN- (in), 10 IN+ (in), 11 V- (power)
part D pins: 4 V+ (power), 11 V- (power), 12 IN+ (in), 13 IN- (in), 14 OUT (out)
2 alternate drawings of the same symbol
part A text: A
part B text: B
part C text: C
part D text: D

## LMV822M
designator U?
Fast Settling Dual Operational Amplifier
footprint SOP8
part A pins: 1 OUT1 (out), 2 IN1- (in), 3 IN1+ (in), 4 V- (power), 8 V+ (power)
part B pins: 5 IN2+ (in), 6 IN2- (in), 7 OUT2 (out)

## LTC3824
designator U?
footprint MSOP10
pins: 1 GND, 2 SYNC/MODE, 3 Rset, 4 VC, 5 VFB, 6 SS, 7 SENSE, 8 VCC, 9 GATE, 10 CAP

## MARK
designator M?
footprint MAK
pins: 0
2 alternate drawings of the same symbol

## MAX232
designator U?, comment MAX3232ESE
footprint SO16
pins: 1 C1+, 2 V+, 3 C1-, 4 C2+, 5 C2-, 6 V-, 7 T2OUT (out), 8 R2IN, 9 R2OUT (out), 10 T2IN, 11 T1IN (in), 12 R1OUT (in), 13 R1IN (in), 14 T1OUT (out), 15 GND, 16 VCC
2 alternate drawings of the same symbol

## MAX232ACPE
designator U?
+5V Powered, Multi-Channel RS-232 Driver/Receiver; PackageDocument: 1997; Published: 16-Jan-2001; LatestRevisionDate: 6-Jun-2005; LatestRevisionNote: Stylized 3D Model Added.; PackageReference: PE16A; Publisher: Altium Limited; Code_JEDEC: MS-001-BB; ComponentLink1Description: Manufacturer Link; ComponentLink1URL: http://www.maxim-ic.com/; ComponentLink2Description: Datasheet; ComponentLink2URL: http://pdfserv.maxim-ic.com/en/ds/MAX220-MAX249.pdf
footprint PE16A (DIP; 16 Leads; Row Spacing 7.62 mm; Pitch 2.54 mm)
3D model PE16 (DIP; 16 Leads; Row Spacing 7.62 mm; Pitch 2.54 mm)
pins: 1 C1+, 2 VDD (power), 3 C1-, 4 C2+, 5 C2-, 6 VEE (power), 7 T2OUT (out), 8 R2IN (in), 9 R2OUT (out), 10 T2IN (in), 11 T1IN (in), 12 R1OUT (out), 13 R1IN (in), 14 T1OUT (out), 15 GND (power), 16 VCC (power)

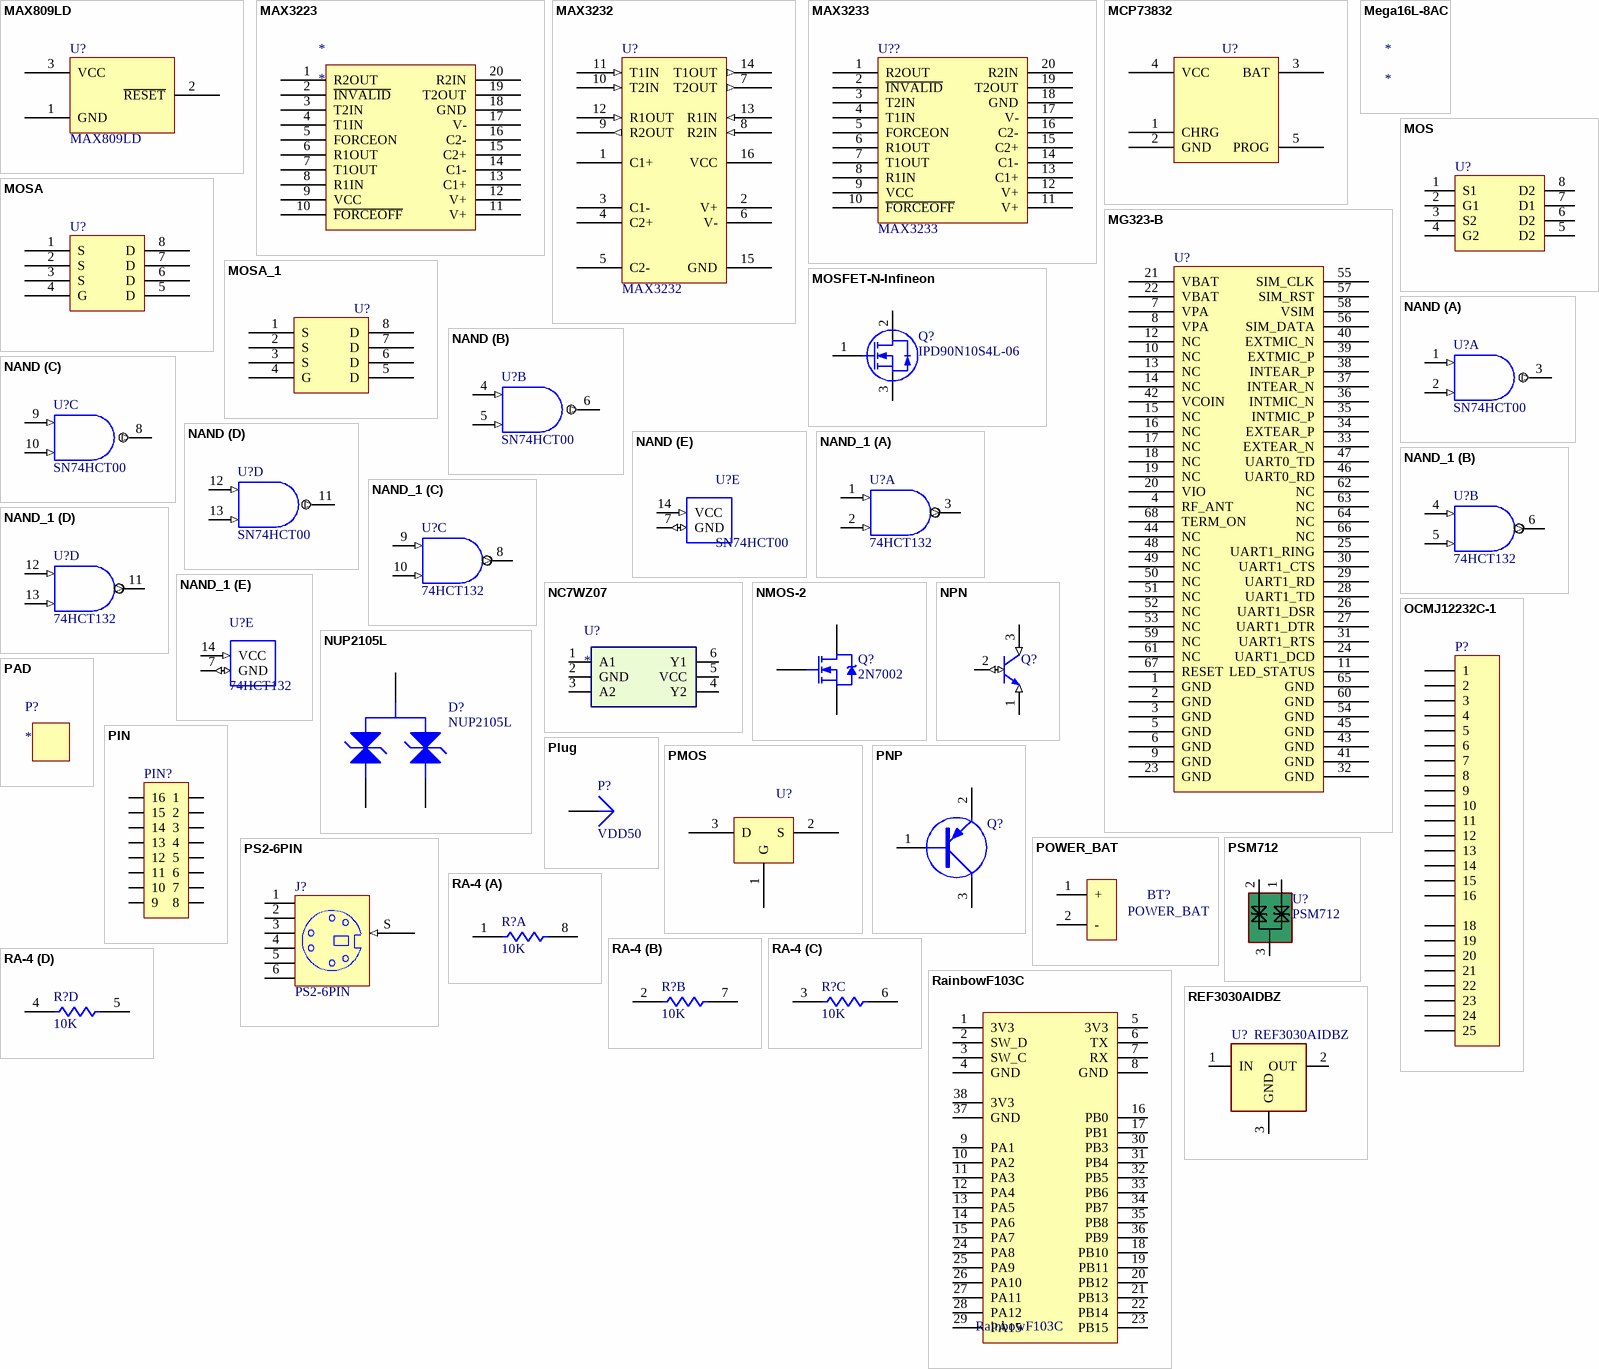
[diagram p3: symbols MAX809LD to REF3030AIDBZ]

## MAX809LD
designator U?
3-pin microprocessor resets
footprint SOT23
pins: 1 GND (power), 2 ~{RESET} (power), 3 VCC
2 alternate drawings of the same symbol

## MAX3223
designator *
pins: 1 R2OUT, 2 ~{INVALID}, 3 T2IN, 4 T1IN, 5 FORCEON, 6 R1OUT, 7 T1OUT, 8 R1IN, 9 VCC, 10 ~{FORCEOFF}, 11 V+, 12 V+, 13 C1+, 14 C1-, 15 C2+, 16 C2-, 17 V-, 18 GND, 19 T2OUT, 20 R2IN

## MAX3232
designator U?
footprint SO-16
pins: 1 C1+, 2 V+, 3 C1-, 4 C2+, 5 C2-, 6 V-, 7 T2OUT (out), 8 R2IN (in), 9 R2OUT (out), 10 T2IN (in), 11 T1IN (in), 12 R1OUT (in), 13 R1IN (in), 14 T1OUT (out), 15 GND (power), 16 VCC (power)
2 alternate drawings of the same symbol

## MAX3233
designator U??
footprint SOP20
pins: 1 R2OUT, 2 ~{INVALID}, 3 T2IN, 4 T1IN, 5 FORCEON, 6 R1OUT, 7 T1OUT, 8 R1IN, 9 VCC, 10 ~{FORCEOFF}, 11 V+, 12 V+, 13 C1+, 14 C1-, 15 C2+, 16 C2-, 17 V-, 18 GND, 19 T2OUT, 20 R2IN
2 alternate drawings of the same symbol

## MCP73832
designator U?
footprint SOT-23-5
footprint SOT23-5
pins: 1 CHRG, 2 GND, 3 BAT, 4 VCC, 5 PROG
2 alternate drawings of the same symbol

## Mega16L-8AC
designator *

## MG323-B
designator U?
footprint MG323-B_LCC68
pins: 1 GND, 2 GND, 3 GND, 4 RF_ANT, 5 GND, 6 GND, 7 VPA, 8 VPA, 9 GND, 10 NC, 11 LED_STATUS, 12 NC, 13 NC, 14 NC, 15 NC, 16 NC, 17 NC, 18 NC, 19 NC, 20 VIO, 21 VBAT, 22 VBAT, 23 GND, 24 UART1_DCD, 25 UART1_RING, 26 UART1_DSR, 27 UART1_DTR, 28 UART1_TD, 29 UART1_RD, 30 UART1_CTS, 31 UART1_RTS, 32 GND, 33 EXTEAR_N, 34 EXTEAR_P, 35 INTMIC_P, 36 INTMIC_N, 37 INTEAR_N, 38 INTEAR_P, 39 EXTMIC_P, 40 EXTMIC_N, 41 GND, 42 VCOIN, 43 GND, 44 NC, 45 GND, 46 UART0_RD, 47 UART0_TD, 48 NC, 49 NC, 50 NC, 51 NC, 52 NC, 53 NC, 54 GND, 55 SIM_CLK, 56 SIM_DATA, 57 SIM_RST, 58 VSIM, 59 NC, 60 GND, 61 NC, 62 NC, 63 NC, 64 NC, 65 GND, 66 NC, 67 RESET, 68 TERM_ON

## MOS
designator U?
footprint SO8
footprint SO-8
pins: 1 S1, 2 G1, 3 S2, 4 G2, 5 D2, 6 D2, 7 D1, 8 D2

## MOSA
designator U?
footprint NSO8
pins: 1 S, 2 S, 3 S, 4 G, 5 D, 6 D, 7 D, 8 D

## MOSA_1
designator U?
footprint SO8
pins: 1 S, 2 S, 3 S, 4 G, 5 D, 6 D, 7 D, 8 D

## MOSFET-N-Infineon
designator Q?, comment IPD90N10S4L-06
N-Channel MOSFET; PackageDocument: 1995/1996; Published: 8-Jun-2000; LatestRevisionDate: 17-Jul-2002; LatestRevisionNote: Re-released for DXP Platform.; PackageReference: E3; Publisher: Altium Limited
footprint E3
footprint PG-TO252-3-11
pins: 1 G, 2 D, 3 S
2 alternate drawings of the same symbol

## NAND
designator U?, comment SN74HCT00
NAND Gate
footprint SOP14
part A pins: 1 A (in), 2 B (in), 3 Y (out)
part B pins: 4 A (in), 5 B (in), 6 Y (out)
part C pins: 8 Y (out), 9 A (in), 10 B (in)
part D pins: 11 Y (out), 12 A (in), 13 B (in)
part E pins: 7 GND (io), 14 VCC (in)

## NAND_1
designator U?, comment 74HCT132
NAND Gate
footprint SOP14
part A pins: 1 A (in), 2 B (in), 3 Y (out)
part B pins: 4 A (in), 5 B (in), 6 Y (out)
part C pins: 8 Y (out), 9 A (in), 10 B (in)
part D pins: 11 Y (out), 12 A (in), 13 B (in)
part E pins: 7 GND (io), 14 VCC (in)
2 alternate drawings of the same symbol

## NC7WZ07
designator U?
footprint SOT-363
pins: 1 A1, 2 GND, 3 A2, 4 Y2, 5 VCC, 6 Y1

## NMOS-2
designator Q?, comment 2N7002
N-Channel Power MOSFET; Note: Pin 2 is electrically connected to pin 4.; Published: 8-Jun-2000; LatestRevisionDate: 17-Jul-2002; LatestRevisionNote: Re-released for DXP Platform.; DatasheetVersion: PD-9.814; PackageVersion: Feb-1997; PackageReference: TO-220AB; Publisher: Altium Limited; PackageDescription: TO, Thru-Hole, Vertical, Heatsink Mounted; 3 In-Line Leads; Pitch 2.54 mm; ComponentLink1Description: Manufacturer Link; ComponentLink1URL: http://www.irf.com/
footprint SOT-23
pins: 1 G, 2 D, 3 S

## NPN
designator Q?
footprint NPN-R
pins: 1 E (in), 2 B (io), 3 C (in)

## NUP2105L
designator D?
Dual Line CAN Bus Protector; Published: 21-Mar-2003; DatasheetDocument: Oct-1999; PackageDocument: Sep-2001; PackageReference: SOT-23; Publisher: Altium Limited; ComponentLink1Description: Manufacturer Link; ComponentLink1URL: http://www.infineon.com/; ComponentLink2Description: Datasheet; ComponentLink2URL: http://www.infineon.com/upload/Document/cmc_upload/documents/080/865/bav70series.pdf
footprint SOT23
pins: 1, 2, 3
2 alternate drawings of the same symbol

## OCMJ12232C-1
designator P?
LatestRevisionDate: 17-Jul-2002; LatestRevisionNote: Re-released for DXP Platform.; Publisher: Altium Limited
footprint OCMJ12232C-1
pins: 1, 2, 3, 4, 5, 6, 7, 8, 9, 10, 11, 12, 13, 14, 15, 16, 18, 19, 20, 21, 22, 23, 24, 25

## PAD
designator P?
footprint PAD 3mm

## PIN
designator PIN?  (value not drawn)
footprint PIN
pins: 1, 2, 3, 4, 5, 6, 7, 8, 9, 10, 11, 12, 13, 14, 15, 16

## Plug
designator P?, comment VDD50
Plug; LatestRevisionDate: 17-Jul-2002; LatestRevisionNote: Re-released for DXP Platform.; Publisher: Altium Limited
footprint PIN1
footprint SIP1-1
pins: 1
2 alternate drawings of the same symbol

## PMOS
designator U?
footprint TO-236AB
footprint SOT-23
pins: 1 G, 2 S, 3 D

## PNP
designator Q?
PNP Transistor
footprint SOT-23
pins: 1 B, 2 E, 3 C

## POWER_BAT
designator BT?
footprint DIP2.54-2-1
pins: 1 +, 2 -

## PS2-6PIN
designator J?
6 Pin Through Hole PS2 Socket (Kycon P/N); Published: 17-Dec-2003; Publisher: Altium Limited; ComponentLink1Description: Manufacturer Link; ComponentLink1URL: http://www.oupiin.com/prodindx.html#Headers
footprint PS2-6PIN (PS2 Socket, 6 Pin, Through Hole)
signal-integrity model Connector
footprint PS2 (PS2 Socket, 6 Pin, Through Hole)
pins: 1, 2, 3, 4, 5, 6, S (in)

## PSM712
designator U?
SOT32/600W
footprint SOT23
pins: 1, 2, 3

## RA-4
designator R?, comment 10K
Resistor Row
footprint RCA03-4D
part A pins: 1, 8
part B pins: 2, 7
part C pins: 3, 6
part D pins: 4, 5
2 alternate drawings of the same symbol

## RainbowF103C
designator RainbowF103C  (value not drawn)
Module
footprint RainbowF103C
footprint RainbowF103C
pins: 1 3V3, 2 SW_D, 3 SW_C, 4 GND, 5 3V3, 6 TX, 7 RX, 8 GND, 9 PA1, 10 PA2, 11 PA3, 12 PA4, 13 PA5, 14 PA6, 15 PA7, 16 PB0, 17 PB1, 18 PB10, 19 PB11, 20 PB12, 21 PB13, 22 PB14, 23 PB15, 24 PA8, 25 PA9, 26 PA10, 27 PA11, 28 PA12, 29 PA15, 30 PB3, 31 PB4, 32 PB5, 33 PB6, 34 PB7, 35 PB8, 36 PB9, 37 GND, 38 3V3

## REF3030AIDBZ
designator U?
footprint SOT23
pins: 1 IN, 2 OUT, 3 GND

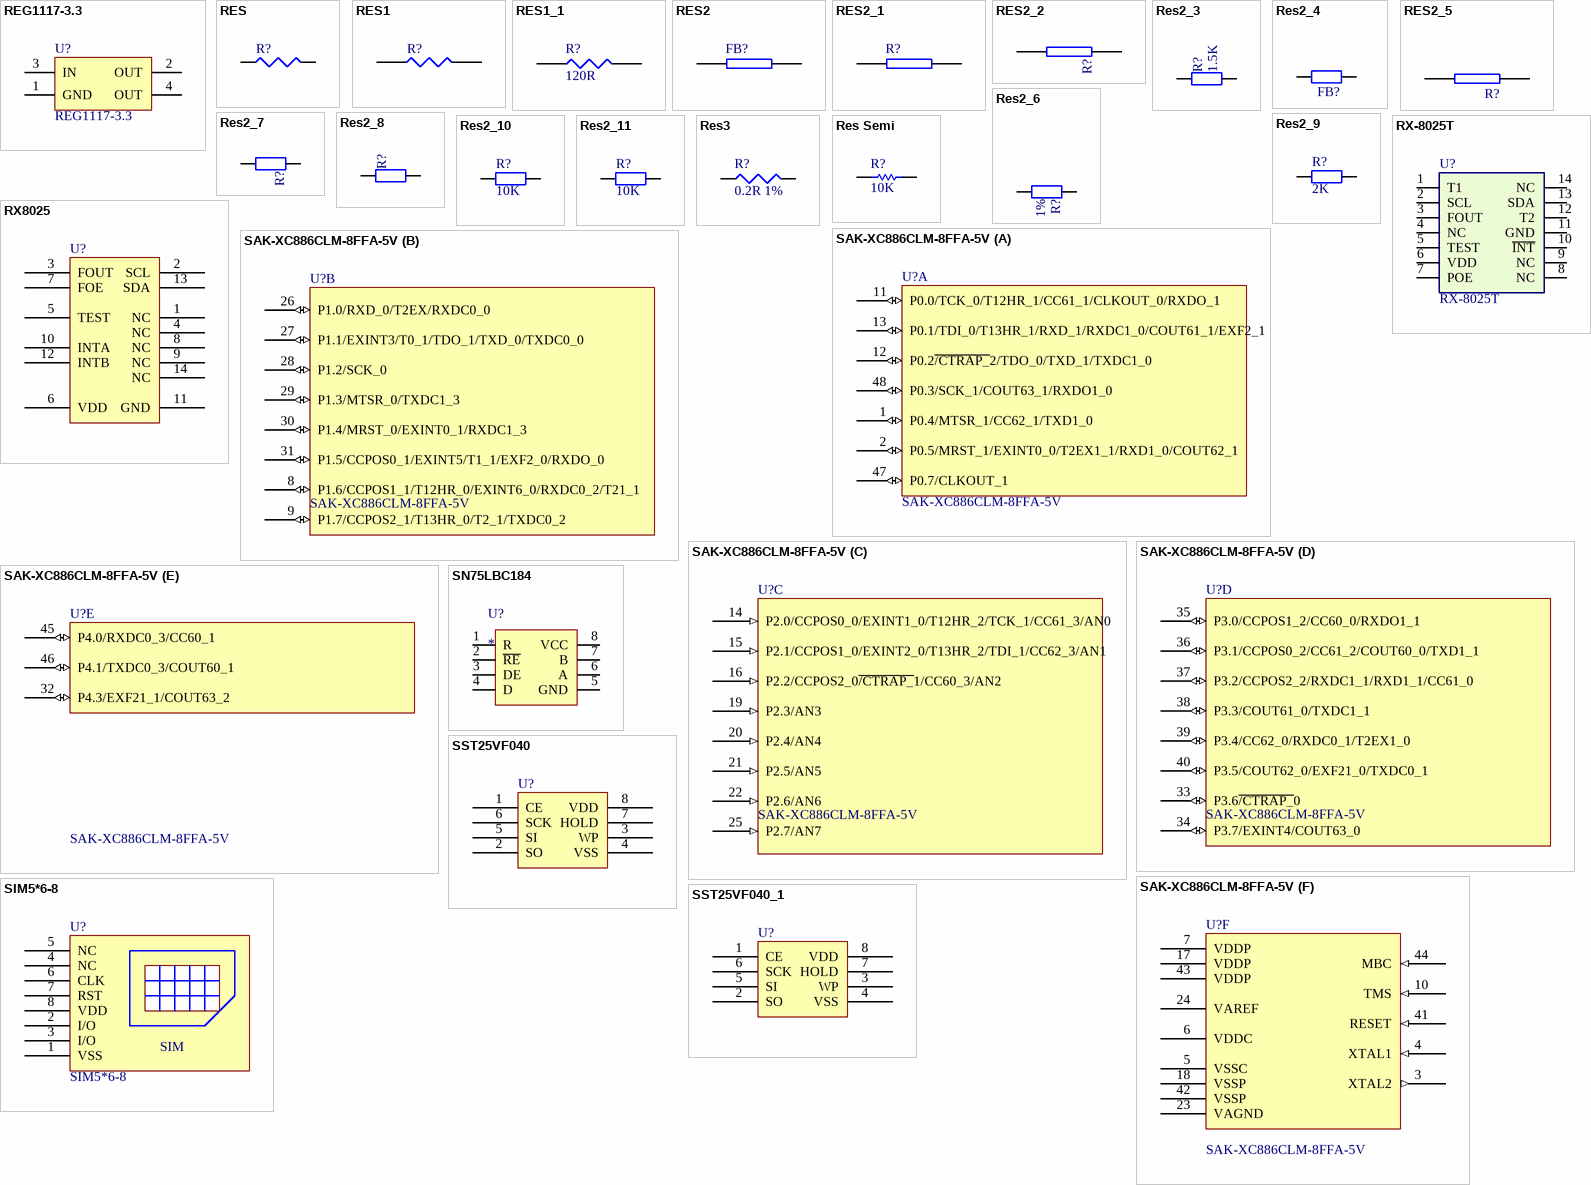
[diagram p4: symbols REG1117-3.3 to SST25VF040_1]

## REG1117-3.3
designator U?
footprint SOT-223
pins: 1 GND, 2 OUT, 3 IN, 4 OUT

## RES
designator R?
footprint 0805R
footprint 0603R
footprint 1206R
pins: 1, 2

## RES1
designator R?
footprint 0603
pins: 1, 2

## RES1_1
designator R?, comment 120R
Resistor
footprint 0603
footprint 0805R
pins: 1, 2
2 alternate drawings of the same symbol

## RES2
designator FB?
footprint 1206
pins: 1, 2

## RES2_1
designator R?
footprint 2512
pins: 1, 2

## RES2_2
designator R?
footprint 0603
pins: 1, 2

## Res2_3
designator R?, comment 1.5K
Resistor; Published: *; LatestRevisionDate: *; LatestRevisionNote: *; PackageReference: *; Publisher: *; Value: *
footprint AXIAL-0.4
footprint 0805R
pins: 1, 2
2 alternate drawings of the same symbol

## Res2_4
designator FB?
Resistor; Published: *; LatestRevisionDate: *; LatestRevisionNote: *; PackageReference: *; Publisher: *; Value: *
footprint AXIAL-0.4
footprint 1206
pins: 1, 2
2 alternate drawings of the same symbol

## RES2_5
designator R?
footprint 0805R
pins: 1, 2

## Res2_6
designator R?, comment 0.022R 1%
Resistor; Published: *; LatestRevisionDate: *; LatestRevisionNote: *; PackageReference: *; Publisher: *; Value: *
footprint AXIAL-0.4
footprint 1210
pins: 1, 2
2 alternate drawings of the same symbol

## Res2_7
designator R?
Resistor; Published: *; LatestRevisionDate: *; LatestRevisionNote: *; PackageReference: *; Publisher: *; Value: *
footprint AXIAL-0.4
footprint 0603
pins: 1, 2
2 alternate drawings of the same symbol

## Res2_8
designator R?
Resistor; Published: *; LatestRevisionDate: *; LatestRevisionNote: *; PackageReference: *; Publisher: *; Value: *
footprint AXIAL-0.4
footprint LED2
pins: 1, 2
2 alternate drawings of the same symbol

## Res2_9
designator R?, comment 2K
Resistor; Value: 1K; Published: 8-Jun-2000; LatestRevisionDate: 17-Jul-2002; LatestRevisionNote: Re-released for DXP Platform.; PackageReference: AXIAL-0.4; Publisher: Altium Limited
footprint AXIAL-0.4 (Resistor; 2 Leads)
simulation model RESISTOR (Resistor)
signal-integrity model Res
pins: 1, 2

## Res2_10
designator R?, comment 10K
Resistor; Published: 8-Jun-2000; LatestRevisionDate: 17-Jul-2002; LatestRevisionNote: Re-released for DXP Platform.; Publisher: Altium Limited
footprint AXIAL-0.3 (Resistor; 2 Leads)
simulation model RESISTOR (Resistor)
signal-integrity model Res
pins: 1, 2

## Res2_11
designator R?, comment 10K
Resistor; Value: 1K; Published: 8-Jun-2000; LatestRevisionDate: 17-Jul-2002; LatestRevisionNote: Re-released for DXP Platform.; PackageReference: AXIAL-0.4; Publisher: Altium Limited
footprint AXIAL-0.4
footprint 0805R
pins: 1, 2
2 alternate drawings of the same symbol

## Res3
designator R?, comment 0.2R 1%
Resistor; Value: 1K; Published: 8-Jun-2000; LatestRevisionDate: 04-Mar-2005; LatestRevisionNote: PCB Footprint replaced.; PackageReference: J1-0603; Publisher: Altium Limited
footprint J1-0603
footprint 3225[1210]
footprint 5025[2010]
footprint 6332[2512]
footprint 1812R
pins: 1, 2
2 alternate drawings of the same symbol

## Res Semi
designator R?, comment 10K
Semiconductor Resistor; Published: 8-Jun-2000; LatestRevisionDate: 17-Jul-2002; LatestRevisionNote: Re-released for DXP Platform.; PackageReference: AXIAL-0.5; Publisher: Altium Limited; PackageDescription: Axial Device, Thru-Hole; 2 Leads; 0.5 in Pin Spacing
footprint 0805R
pins: 1, 2

## RX8025
designator U?
footprint SOP14
footprint RX8025
pins: 1 NC, 2 SCL, 3 FOUT, 4 NC, 5 TEST, 6 VDD, 7 FOE, 8 NC, 9 NC, 10 INTA, 11 GND, 12 INTB, 13 SDA, 14 NC

## RX-8025T
designator U?
footprint SOP14
pins: 1 T1, 2 SCL, 3 FOUT, 4 NC, 5 TEST, 6 VDD, 7 POE, 8 NC, 9 NC, 10 ~{INT}, 11 GND, 12 T2, 13 SDA, 14 NC

## SAK-XC886CLM-8FFA-5V
designator U?
Infineon 8-Bit Single-Chip Microcontroller
footprint PG-TQFP-48
part A pins: 1 P0.4/MTSR_1/CC62_1/TXD1_0 (io), 2 P0.5/MRST_1/EXINT0_0/T2EX1_1/RXD1_0/COUT62_1 (io), 11 P0.0/TCK_0/T12HR_1/CC61_1/CLKOUT_0/RXDO_1 (io), 12 P0.2~{/CTRAP_}2/TDO_0/TXD_1/TXDC1_0 (io), 13 P0.1/TDI_0/T13HR_1/RXD_1/RXDC1_0/COUT61_1/EXF2_1 (io), 47 P0.7/CLKOUT_1 (io), 48 P0.3/SCK_1/COUT63_1/RXDO1_0 (io)
part B pins: 8 P1.6/CCPOS1_1/T12HR_0/EXINT6_0/RXDC0_2/T21_1 (io), 9 P1.7/CCPOS2_1/T13HR_0/T2_1/TXDC0_2 (io), 26 P1.0/RXD_0/T2EX/RXDC0_0 (io), 27 P1.1/EXINT3/T0_1/TDO_1/TXD_0/TXDC0_0 (io), 28 P1.2/SCK_0 (io), 29 P1.3/MTSR_0/TXDC1_3 (io), 30 P1.4/MRST_0/EXINT0_1/RXDC1_3 (io), 31 P1.5/CCPOS0_1/EXINT5/T1_1/EXF2_0/RXDO_0 (io)
part C pins: 14 P2.0/CCPOS0_0/EXINT1_0/T12HR_2/TCK_1/CC61_3/AN0 (in), 15 P2.1/CCPOS1_0/EXINT2_0/T13HR_2/TDI_1/CC62_3/AN1 (in), 16 P2.2/CCPOS2_0~{/CTRAP_}1/CC60_3/AN2 (in), 19 P2.3/AN3 (in), 20 P2.4/AN4 (in), 21 P2.5/AN5 (in), 22 P2.6/AN6 (in), 25 P2.7/AN7 (in)
part D pins: 33 P3.6~{/CTRAP_}0 (io), 34 P3.7/EXINT4/COUT63_0 (io), 35 P3.0/CCPOS1_2/CC60_0/RXDO1_1 (io), 36 P3.1/CCPOS0_2/CC61_2/COUT60_0/TXD1_1 (io), 37 P3.2/CCPOS2_2/RXDC1_1/RXD1_1/CC61_0 (io), 38 P3.3/COUT61_0/TXDC1_1 (io), 39 P3.4/CC62_0/RXDC0_1/T2EX1_0 (io), 40 P3.5/COUT62_0/EXF21_0/TXDC0_1 (io)
part E pins: 32 P4.3/EXF21_1/COUT63_2 (io), 45 P4.0/RXDC0_3/CC60_1 (io), 46 P4.1/TXDC0_3/COUT60_1 (io)
part F pins: 3 XTAL2 (out), 4 XTAL1 (in), 5 VSSC (power), 6 VDDC (power), 7 VDDP (power), 10 TMS (in), 17 VDDP (power), 18 VSSP (power), 23 VAGND (power), 24 VAREF (power), 41 RESET (in), 42 VSSP (power), 43 VDDP (power), 44 MBC (in)
2 alternate drawings of the same symbol

## SIM5*6-8
designator U?
footprint ETSI_SO8
pins: 1 VSS, 2 I/O, 3 I/O, 4 NC, 5 NC, 6 CLK, 7 RST, 8 VDD
text: SIM

## SN75LBC184
designator U?
footprint SOP8
pins: 1 R, 2 ~{RE}, 3 DE, 4 D, 5 GND, 6 A, 7 B, 8 VCC

## SST25VF040
designator U?
footprint NSO8
pins: 1 CE, 2 SO, 3 WP, 4 VSS, 5 SI, 6 SCK, 7 HOLD, 8 VDD

## SST25VF040_1
designator U?
footprint NSO8
pins: 1 CE, 2 SO, 3 WP, 4 VSS, 5 SI, 6 SCK, 7 HOLD, 8 VDD

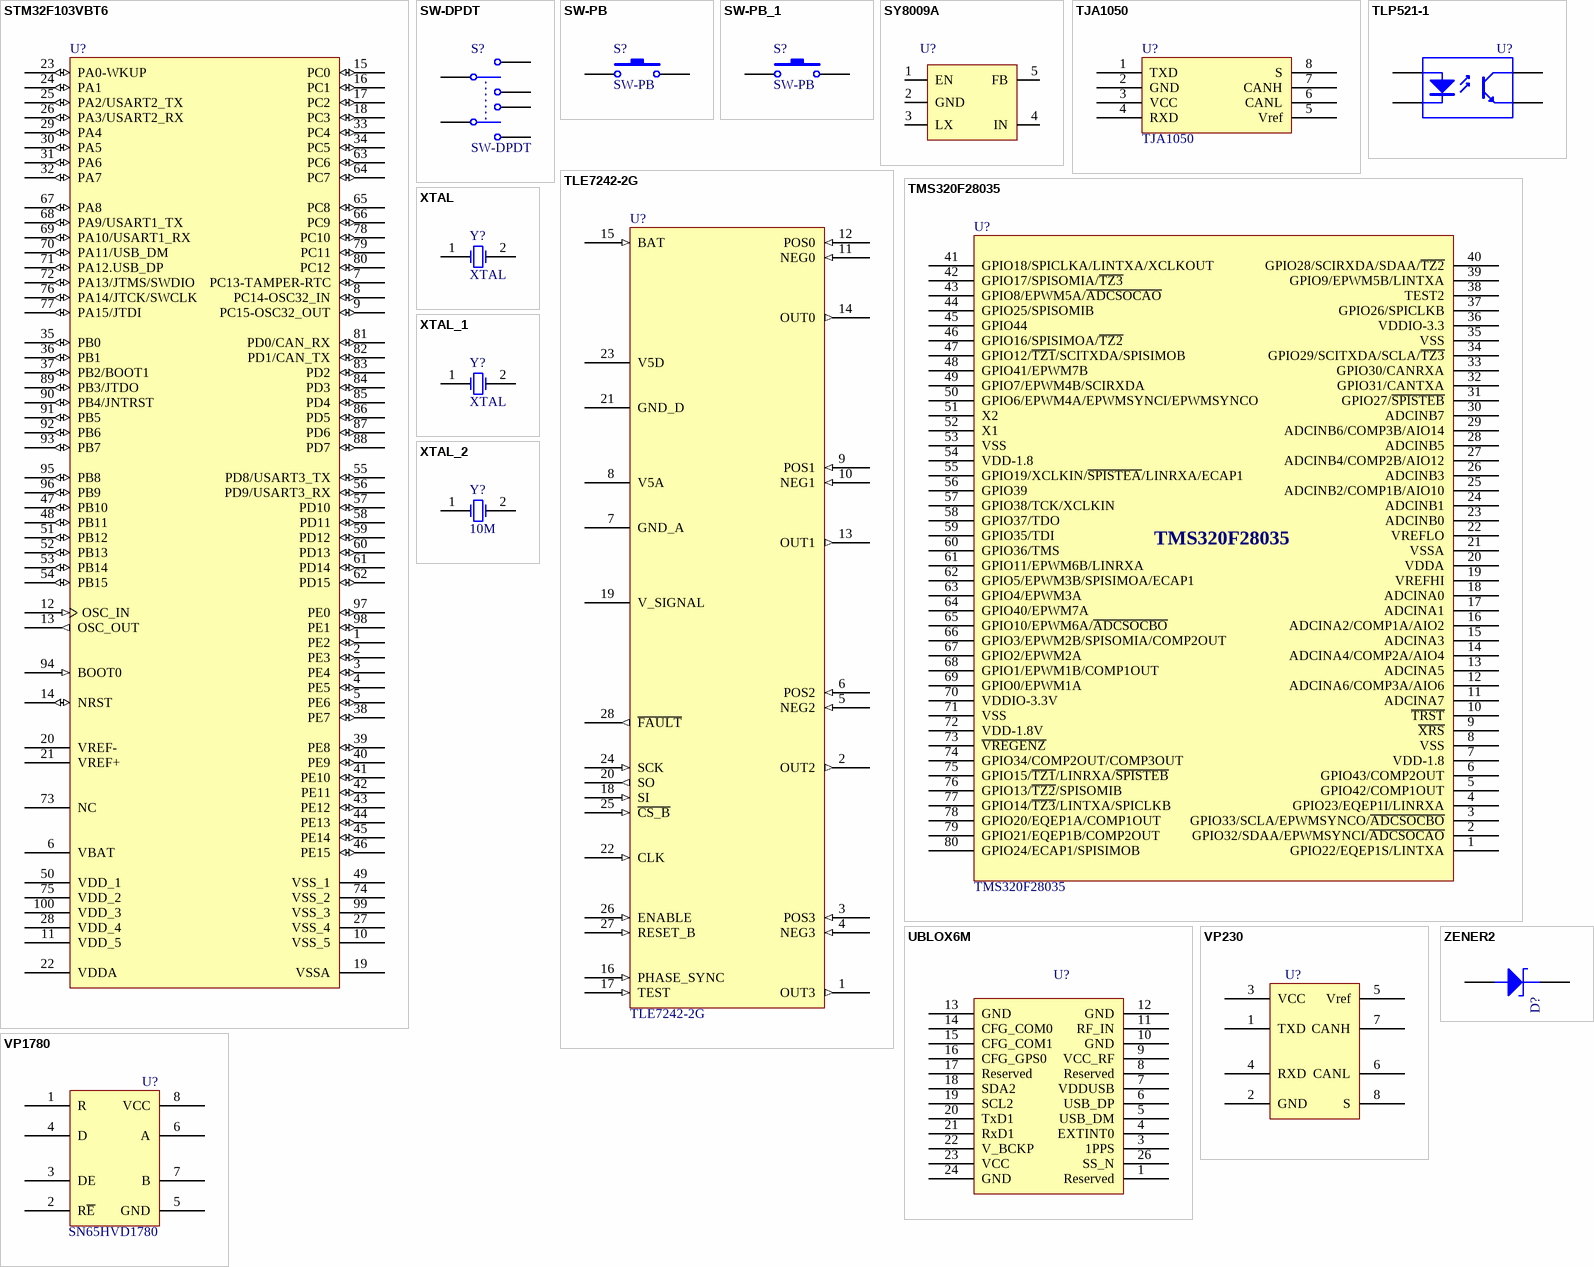
[diagram p5: symbols STM32F103VBT6 to ZENER2]

## STM32F103VBT6
designator U?
STM32 ARM-based 32-bit MCU with 64 Kbytes Flash, 100-pin LQFP, Industrial Temperature; Published: *; DatasheetVersion: *; PackageVersion: *; PackageReference: *; Publisher: *; PackageDescription: *; ComponentLink1Description: *; ComponentLink1URL: *; ComponentLink2Description: *; ComponentLink2URL: *
footprint LQFP100_N
footprint LQFP100_L
footprint LQFP100_M
pins: 1 PE2 (io), 2 PE3 (io), 3 PE4 (io), 4 PE5 (io), 5 PE6 (io), 6 VBAT (power), 7 PC13-TAMPER-RTC (io), 8 PC14-OSC32_IN (io), 9 PC15-OSC32_OUT (io), 10 VSS_5 (power), 11 VDD_5 (power), 12 OSC_IN (in), 13 OSC_OUT (out), 14 NRST (io), 15 PC0 (io), 16 PC1 (io), 17 PC2 (io), 18 PC3 (io), 19 VSSA (power), 20 VREF- (power), 21 VREF+ (power), 22 VDDA (power), 23 PA0-WKUP (io), 24 PA1 (io), 25 PA2/USART2_TX (io), 26 PA3/USART2_RX (io), 27 VSS_4 (power), 28 VDD_4 (power), 29 PA4 (io), 30 PA5 (io), 31 PA6 (io), 32 PA7 (io), 33 PC4 (io), 34 PC5 (io), 35 PB0 (io), 36 PB1 (io), 37 PB2/BOOT1 (io), 38 PE7 (io), 39 PE8 (io), 40 PE9 (io), 41 PE10 (io), 42 PE11 (io), 43 PE12 (io), 44 PE13 (io), 45 PE14 (io), 46 PE15 (io), 47 PB10 (io), 48 PB11 (io), 49 VSS_1 (power), 50 VDD_1 (power), 51 PB12 (io), 52 PB13 (io), 53 PB14 (io), 54 PB15 (io), 55 PD8/USART3_TX (io), 56 PD9/USART3_RX (io), 57 PD10 (io), 58 PD11 (io), 59 PD12 (io), 60 PD13 (io), 61 PD14 (io), 62 PD15 (io), 63 PC6 (io), 64 PC7 (io), 65 PC8 (io), 66 PC9 (io), 67 PA8 (io), 68 PA9/USART1_TX (io), 69 PA10/USART1_RX (io), 70 PA11/USB_DM (io), 71 PA12.USB_DP (io), 72 PA13/JTMS/SWDIO (io), 73 NC, 74 VSS_2 (power), 75 VDD_2 (power), 76 PA14/JTCK/SWCLK (io), 77 PA15/JTDI (io), 78 PC10 (io), 79 PC11 (io), 80 PC12 (io), 81 PD0/CAN_RX (io), 82 PD1/CAN_TX (io), 83 PD2 (io), 84 PD3 (io), 85 PD4 (io), 86 PD5 (io), 87 PD6 (io), 88 PD7 (io), 89 PB3/JTDO (io), 90 PB4/JNTRST (io), 91 PB5 (io), 92 PB6 (io), 93 PB7 (io), 94 BOOT0 (in), 95 PB8 (io), 96 PB9 (io), 97 PE0 (io), 98 PE1 (io), 99 VSS_3 (power), 100 VDD_3 (power)
2 alternate drawings of the same symbol

## SW-DPDT
designator S?
Double-Pole, Double-Throw Switch; Published: 24-Mar-1999; LatestRevisionDate: 17-Jul-2002; LatestRevisionNote: Re-released for DXP Platform.; Publisher: Altium Limited
footprint DPDT-6 (Double-Pole, Double-Throw Switch; 6 Leads)
pins: 1, 2, 3, 4, 5, 6

## SW-PB
designator S?
footprint KEY14
pins: 1, 2

## SW-PB_1
designator S?, comment SW-PB
footprint SW-PB
pins: 1, 2

## SY8009A
designator U?
SOT23-5
footprint SOT23-5
pins: 1 EN, 2 GND, 3 LX, 4 IN, 5 FB

## TJA1050
designator U?
footprint SO-8
pins: 1 TXD, 2 GND, 3 VCC, 4 RXD, 5 Vref, 6 CANL, 7 CANH, 8 S
2 alternate drawings of the same symbol

## TLE7242-2G
designator U?
4 Channel Fixed Frequency Constant Current  Control IC
footprint SOIC28_M
pins: 1 OUT3 (out), 2 OUT2 (out), 3 POS3 (in), 4 NEG3 (in), 5 NEG2 (in), 6 POS2 (in), 7 GND_A (power), 8 V5A (power), 9 POS1 (in), 10 NEG1 (in), 11 NEG0 (in), 12 POS0 (in), 13 OUT1 (out), 14 OUT0 (out), 15 BAT (in), 16 PHASE_SYNC (in), 17 TEST (in), 18 SI (in), 19 V_SIGNAL (power), 20 SO (out), 21 GND_D (power), 22 CLK (in), 23 V5D (power), 24 SCK (in), 25 ~{CS_B} (in), 26 ENABLE (in), 27 RESET_B (in), 28 ~{FAULT} (out)
2 alternate drawings of the same symbol

## TLP521-1
designator U?
General Optocouplers
footprint DIP4
footprint PS2501L-1
pins: 1 Anode, 2 Cathode, 3 Emitter, 4 Collector

## TMS320F28035
designator U?
footprint LQFP-80 (Quad Flatpack)
pins: 1 GPIO22/EQEP1S/LINTXA, 2 GPIO32/SDAA/EPWMSYNCI/~{ADCSOCAO}, 3 GPIO33/SCLA/EPWMSYNCO/~{ADCSOCBO}, 4 GPIO23/EQEP1I/LINRXA, 5 GPIO42/COMP1OUT, 6 GPIO43/COMP2OUT, 7 VDD-1.8, 8 VSS, 9 ~{XRS}, 10 ~{TRST}, 11 ADCINA7, 12 ADCINA6/COMP3A/AIO6, 13 ADCINA5, 14 ADCINA4/COMP2A/AIO4, 15 ADCINA3, 16 ADCINA2/COMP1A/AIO2, 17 ADCINA1, 18 ADCINA0, 19 VREFHI, 20 VDDA, 21 VSSA, 22 VREFLO, 23 ADCINB0, 24 ADCINB1, 25 ADCINB2/COMP1B/AIO10, 26 ADCINB3, 27 ADCINB4/COMP2B/AIO12, 28 ADCINB5, 29 ADCINB6/COMP3B/AIO14, 30 ADCINB7, 31 GPIO27/~{SPISTEB}, 32 GPIO31/CANTXA, 33 GPIO30/CANRXA, 34 GPIO29/SCITXDA/SCLA/~{TZ3}, 35 VSS, 36 VDDIO-3.3, 37 GPIO26/SPICLKB, 38 TEST2, 39 GPIO9/EPWM5B/LINTXA, 40 GPIO28/SCIRXDA/SDAA/~{TZ2}, 41 GPIO18/SPICLKA/LINTXA/XCLKOUT, 42 GPIO17/SPISOMIA/~{TZ3}, 43 GPIO8/EPWM5A/~{ADCSOCAO}, 44 GPIO25/SPISOMIB, 45 GPIO44, 46 GPIO16/SPISIMOA/~{TZ2}, 47 GPIO12/~{TZ1}/SCITXDA/SPISIMOB, 48 GPIO41/EPWM7B, 49 GPIO7/EPWM4B/SCIRXDA, 50 GPIO6/EPWM4A/EPWMSYNCI/EPWMSYNCO, 51 X2, 52 X1, 53 VSS, 54 VDD-1.8, 55 GPIO19/XCLKIN/~{SPISTEA}/LINRXA/ECAP1, 56 GPIO39, 57 GPIO38/TCK/XCLKIN, 58 GPIO37/TDO, 59 GPIO35/TDI, 60 GPIO36/TMS, 61 GPIO11/EPWM6B/LINRXA, 62 GPIO5/EPWM3B/SPISIMOA/ECAP1, 63 GPIO4/EPWM3A, 64 GPIO40/EPWM7A, 65 GPIO10/EPWM6A/~{ADCSOCBO}, 66 GPIO3/EPWM2B/SPISOMIA/COMP2OUT, 67 GPIO2/EPWM2A, 68 GPIO1/EPWM1B/COMP1OUT, 69 GPIO0/EPWM1A, 70 VDDIO-3.3V, 71 VSS, 72 VDD-1.8V, 73 ~{VREGENZ}, 74 GPIO34/COMP2OUT/COMP3OUT, 75 GPIO15/~{TZ1}/LINRXA/~{SPISTEB}, 76 GPIO13/~{TZ2}/SPISOMIB, 77 GPIO14/~{TZ3}/LINTXA/SPICLKB, 78 GPIO20/EQEP1A/COMP1OUT, 79 GPIO21/EQEP1B/COMP2OUT, 80 GPIO24/ECAP1/SPISIMOB
2 alternate drawings of the same symbol

## UBLOX6M
designator U?
footprint UBLOX6M
pins: 1 Reserved, 3 1PPS, 4 EXTINT0, 5 USB_DM, 6 USB_DP, 7 VDDUSB, 8 Reserved, 9 VCC_RF, 10 GND, 11 RF_IN, 12 GND, 13 GND, 14 CFG_COM0, 15 CFG_COM1, 16 CFG_GPS0, 17 Reserved, 18 SDA2, 19 SCL2, 20 TxD1, 21 RxD1, 22 V_BCKP, 23 VCC, 24 GND, 26 SS_N

## VP230
designator U?
footprint SO8
pins: 1 TXD, 2 GND, 3 VCC, 4 RXD, 5 Vref, 6 CANL, 7 CANH, 8 S

## VP1780
designator U?, comment SN65HVD1780
footprint SO8
pins: 1 R, 2 R~{E}, 3 DE, 4 D, 5 GND, 6 A, 7 B, 8 VCC

## XTAL
designator Y?
footprint 49SMD
pins: 1 OSC1, 2 OSC2

## XTAL_1
designator Y?, comment XTAL
footprint XTAL
pins: 1 OSC1, 2 OSC2

## XTAL_2
designator Y?, comment 10M
Crystal Oscillator; Published: 8-Jun-2000; LatestRevisionDate: 17-Jul-2002; LatestRevisionNote: Re-released for DXP Platform.; PackageReference: R38; Publisher: Altium Limited
footprint X
pins: 1 OSC1, 2 OSC2

## ZENER2
designator D?
Zener Diode
footprint 2010D
pins: 1 A, 2 K